# EAGLE library part 54202-T0804LF (library SamacSys_Parts)
Headers & Wire Housings 8P UNSHRD VERT HDR 3.81 MICROMETER TIN Source: Datasheet <https://cdn.amphenol-icc.com/media/wysiwyg/files/drawing/54202.pdf>
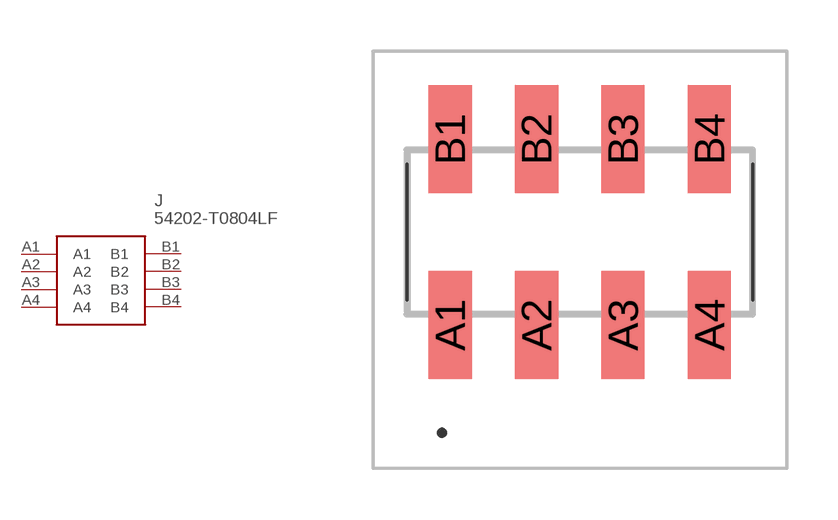
[diagram p15: symbol with the pads of 54202T0804LF; footprint 54202T0804LF]

Designator prefix J

## 54202-T0804LF (ARROW_PART_NUMBER: 54202-T0804LF; ARROW_PRICE-STOCK: https://www.arrow.com/en/products/54202-t0804lf/amphenol-fci; DESCRIPTION: Headers & Wire Housings 8P UNSHRD VERT HDR 3.81 MICROMETER TIN; HEIGHT: 8.38mm; MANUFACTURER_NAME: Amphenol; MANUFACTURER_PART_NUMBER: 54202-T0804LF; MOUSER_PART_NUMBER: 649-54202-T0804LF; MOUSER_PRICE-STOCK: https://www.mouser.co.uk/ProductDetail/Amphenol-FCI/54202-T0804LF/?qs=w7BIuYBP6rf4ZFOG5XutnQ%3D%3D)  [54202T0804LF]
A1  A1
A2  A2
A3  A3
A4  A4
B1  B1
B2  B2
B3  B3
B4  B4

## Footprint 54202T0804LF (pad centres in mm)
54202-T0804LF-3
smd 1.27 x 3.18: A1 -3.81,-2.73; A2 -1.27,-2.73; A3 1.27,-2.73; A4 3.81,-2.73; B1 -3.81,2.73; B2 -1.27,2.73; B3 1.27,2.73; B4 3.81,2.73